# Altium footprint library AdcPmod.PcbLib: 18 footprints (part 2 of 2)
Each footprint in its own frame and in the unit in brackets; x right, y up, seen from the top. Pads: shape width x height; smd on the part's side, far side on the other; paste and mask are expansions set on the pad; w line width, h text height; cw(c..) or ccw(c..) is an arc to the next point about the centre after c.
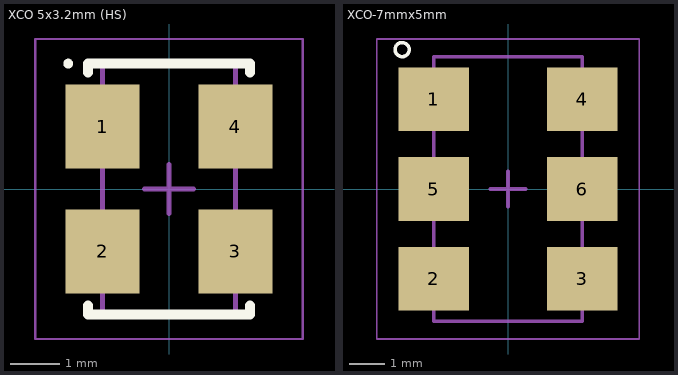
[diagram p1: the footprints below, top view; thin cyan lines are the x and y axes]

## XCO 5x3.2mm (HS) [mm] "XCO, Concave, 4-Leads, Pitch 2,54mm,  Body 5,00x3,20mm,  IPC Low Density"
height 1
pads (4):
  rect 1.5x1.7 smd: 1(-1.35,1.27) 2(-1.35,-1.27) 3(1.35,-1.27) 4(1.35,1.27)
Top Overlay:
  circle w0.1: c-2.05,2.55 r0.05
  lines w0.2: -1.65,-2.37 -1.65,-2.55 1.65,-2.55 1.65,-2.37 ; -1.65,2.37 -1.65,2.55 1.65,2.55 1.65,2.37
Mechanical 13:
  lines w0.1: -1.35,-2.55 -1.35,-1.87 ccw(c-1.35,-1.27) -1.35,-0.67 -1.35,0.67 ccw(c-1.35,1.27) -1.35,1.87 -1.35,2.55 1.35,2.55 1.35,1.87 ccw(c1.35,1.27) 1.35,0.67 1.35,-0.67 ccw(c1.35,-1.27) 1.35,-1.87 1.35,-2.55 -1.35,-2.55
Mechanical 15:
  lines w0.05: -2.72,-3.05 -2.72,3.05 2.72,3.05 2.72,-3.05 -2.72,-3.05
  lines w0.1: -0.5,0 0.5,0 ; 0,-0.5 0,0.5
3D body: height 1, standoff 0, extent -1.65,-2.55 1.65,2.55

## XCO-7mmx5mm [mm] "Chip Array, Concave, 6-Leads, Pitch 2,54mm,  Body 7,50x5,20mm,  IPC Low Density"
height 2
pads (6):
  rect 2x1.8 smd: 1(-2.1,2.54) 2(-2.1,-2.54) 3(2.1,-2.54) 4(2.1,2.54) 5(-2.1,0) 6(2.1,0)
Top Overlay:
  circle w0.1: c-3,3.95 r0.2
Mechanical 13:
  lines w0.1: -2.1,-3.75 2.1,-3.75 2.1,-3.24 cw(c2.1,-2.54) 2.1,-1.84 2.1,-0.7 cw(c2.1,0) 2.1,0.7 2.1,1.84 cw(c2.1,2.54) 2.1,3.24 2.1,3.75 -2.1,3.75 -2.1,3.24 cw(c-2.1,2.54) -2.1,1.84 -2.1,0.7 cw(c-2.1,0) -2.1,-0.7 -2.1,-1.84 cw(c-2.1,-2.54) -2.1,-3.24 -2.1,-3.75
Mechanical 15:
  lines w0.05: -3.72,-4.25 3.72,-4.25 3.72,4.25 -3.72,4.25 -3.72,-4.25
  lines w0.1: -0.5,0 0.5,0 ; 0,-0.5 0,0.5
3D body: height 2, standoff 0, extent -2.6,-3.75 2.6,3.75